# EAGLE library part 4612X (library resistor-sip)
Bourns 4600X Series - Thick Film Conformal SIPs 4612X-101 Resistor Network Configuration: 101 (Bussed Resistors) Resistance range: 10 ohms to 10 Megaohms Maximum Operating Voltage: 100V Source: http://www.bourns.com/ProductLine.aspx?name=standard_thick_film_networks PDF: http://www.bourns.com/data/global/pdfs/4600X.pdf
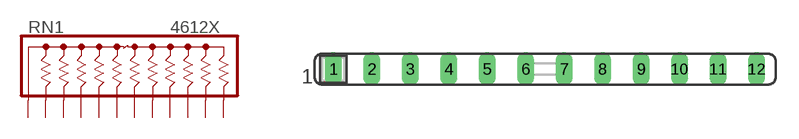
[diagram p6: symbol with the pads of SIP12; footprint SIP12]

Designator prefix RN1

## 4612X  [SIP12]
1  1  pas
2  2  pas
3  3  pas
4  4  pas
5  5  pas
6  6  pas
7  7  pas
8  8  pas
9  9  pas
10  10  pas
11  11  pas
12  12  pas

## Footprint SIP12 (pad centres in mm)
Bourns 4612X-101 Resistor Network Source: http://www.bourns.com/data/global/pdfs/4600X.pdf
drill 0.6 long: 1 -14,-0.03; 2 -11.46,-0.03; 3 -8.92,-0.03; 4 -6.38,-0.03; 5 -3.84,-0.03; 6 -1.3,-0.03; 7 1.24,-0.03; 8 3.78,-0.03; 9 6.32,-0.03; 10 8.86,-0.03; 11 11.4,-0.03; 12 13.94,-0.03